# EAGLE library part TOCOS-TWE001L (library gclueCPU)
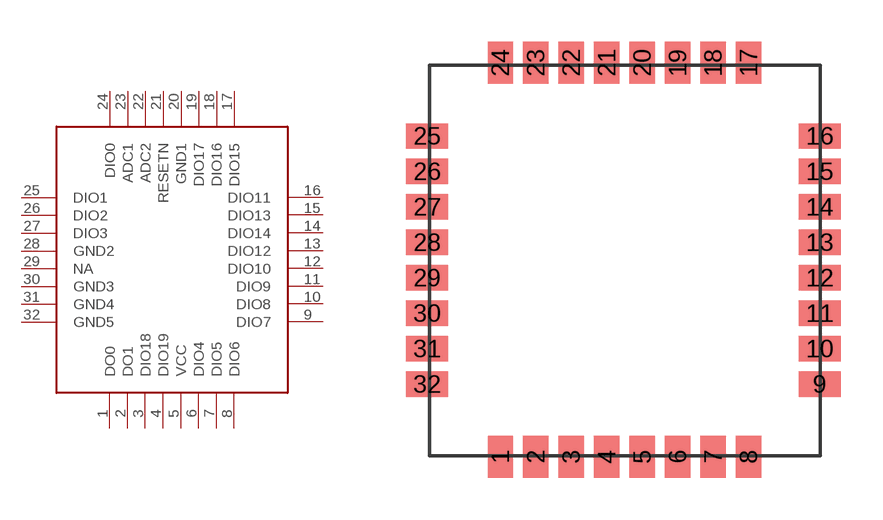
[diagram p0: symbol with the pads of TOCOS-TWE001L; footprint TOCOS-TWE001L]

Designator prefix -

## TOCOS-TWE001L  [TOCOS-TWE001L]
1  DO0
2  DO1
3  DIO18
4  DIO19
5  VCC
6  DIO4
7  DIO5
8  DIO6
9  DIO7
10  DIO8
11  DIO9
12  DIO10
13  DIO12
14  DIO14
15  DIO13
16  DIO11
17  DIO15
18  DIO16
19  DIO17
20  GND1
21  RESETN
22  ADC2
23  ADC1
24  DIO0
25  DIO1
26  DIO2
27  DIO3
28  GND2
29  NA
30  GND3
31  GND4
32  GND5

## Footprint TOCOS-TWE001L (pad centres in mm)
smd 0.9 x 1.5: 1 -4.46,-7.03; 2 -3.19,-7.03; 3 -1.92,-7.03; 4 -0.65,-7.03; 5 0.62,-7.03; 6 1.89,-7.03; 7 3.16,-7.03; 8 4.43,-7.03; 17 4.43,7.08; 18 3.16,7.08; 19 1.89,7.08; 20 0.62,7.08; 21 -0.65,7.08; 22 -1.92,7.08; 23 -3.19,7.08; 24 -4.46,7.08
smd 1.5 x 0.9: 9 6.98,-4.43; 10 6.98,-3.16; 11 6.98,-1.89; 12 6.98,-0.62; 13 6.98,0.65; 14 6.98,1.92; 15 6.98,3.19; 16 6.98,4.46; 25 -7.08,4.46; 26 -7.08,3.19; 27 -7.08,1.92; 28 -7.08,0.65; 29 -7.08,-0.62; 30 -7.08,-1.89; 31 -7.08,-3.16; 32 -7.08,-4.43